# Altium schematic symbol library Inductor_POL.Schlib: 1 symbol
Pins are listed as number, name and electrical type; pins without a type are passive.

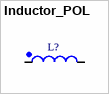
[diagram p0: symbol Inductor_POL]

## Inductor_POL
designator L?
pins: 1, 2